# Altium schematic symbol library CL21B106KOQNNNE.SchLib: 1 symbol
Pins are listed as number, name and electrical type; pins without a type are passive.

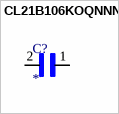
[diagram p0: symbol CL21B106KOQNNNE]

## CL21B106KOQNNNE
designator C?
Cap Ceramic 10uF 16V X7R 10% Pad SMD 0805 125C T/R; MP: CL21B106KOQNNNE; MF: {'manufacturer': u'Samsung'}; Package: None; Availability: Unavailable; Value: *; Price: None
footprint CAPC2012X140N
pins: 1, 2